# EAGLE library part 63100611021 (library Wuerth_Elektronik_eiCan_Communication_Connectors_v2.4)
WR-COM Horizontal Half Shielded Mini DIN, 6 pins
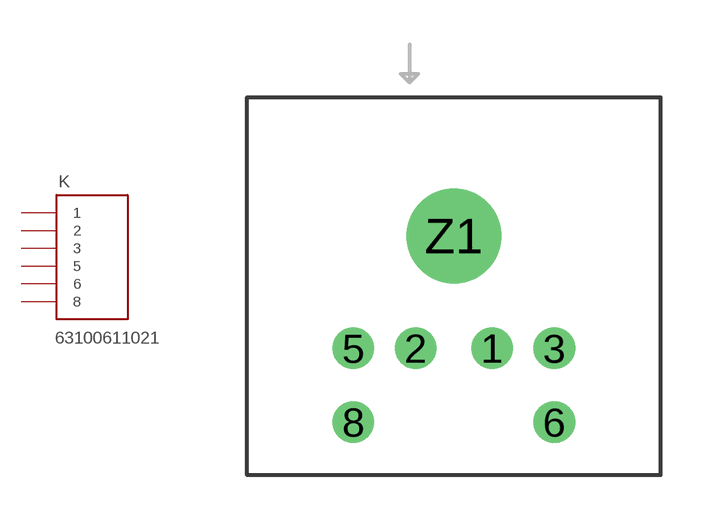
[diagram p7: symbol with the pads of 63100611021; footprint 63100611021]

Designator prefix K

## 63100611021  [63100611021]
1  1  pas
2  2  pas
3  3  pas
5  5  pas
6  6  pas
8  8  pas

## Footprint 63100611021 (pad centres in mm)
WR-COM Horizontal Half Shielded Mini DIN, 6 pins
drill 0.9 round: 1 1.3,-8.5; 2 -1.29,-8.5; 3 3.405,-8.5; 5 -3.405,-8.5; 6 3.405,-11; 8 -3.405,-11
drill 2.2 round: Z1 0,-4.7